# Altium footprint library sanziqi_v1.2.PcbLib: 32 footprints (part 2 of 2)
Each footprint in its own frame and in the unit in brackets; x right, y up, seen from the top. Pads: shape width x height; smd on the part's side, far side on the other; paste and mask are expansions set on the pad; w line width, h text height; cw(c..) or ccw(c..) is an arc to the next point about the centre after c.
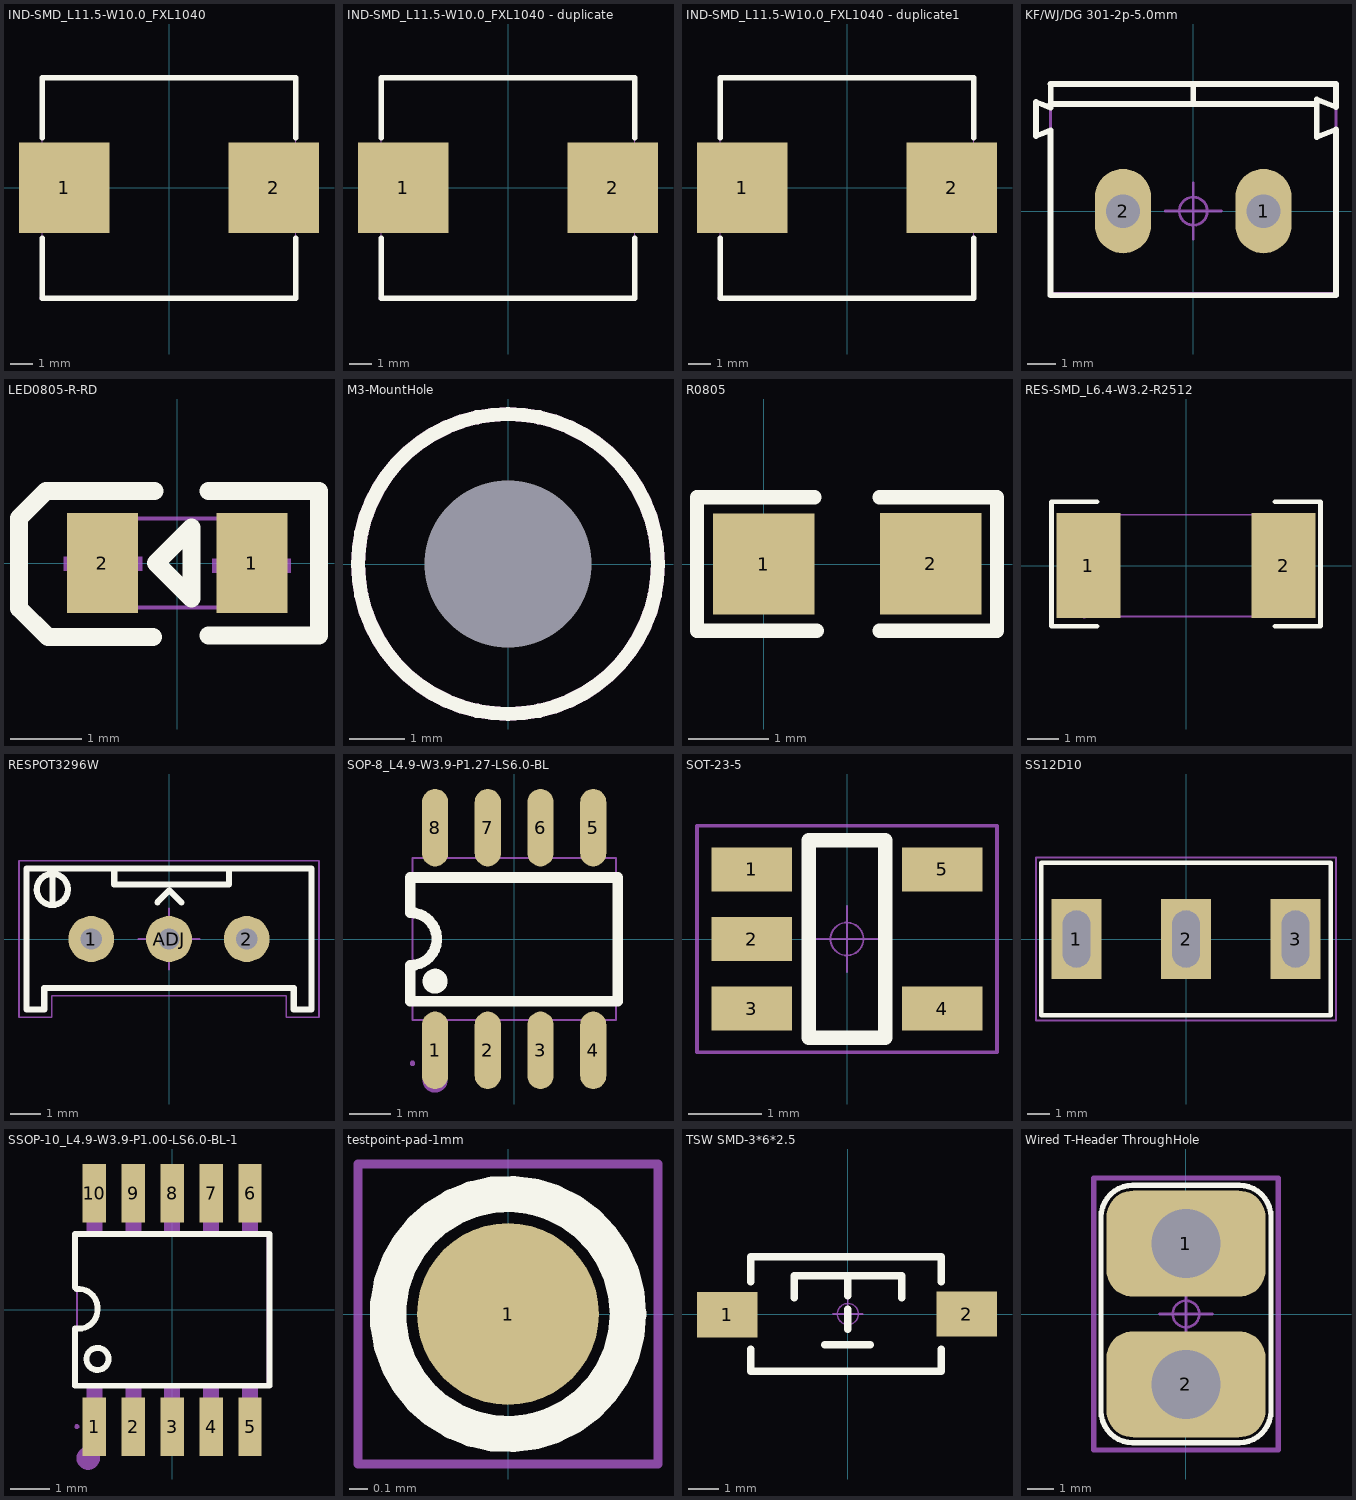
[diagram p1: the footprints below, top view; thin cyan lines are the x and y axes]

## IND-SMD_L11.5-W10.0_FXL1040 [mm]
pads (2):
  rect 4.1x4.1 smd: 1(-4.75,0) 2(4.75,0)
Top Overlay:
  lines w0.254: -5.75,-2.281 -5.75,-5 5.75,-5 5.75,-2.281 ; -5.75,2.281 -5.75,5 5.75,5 5.75,2.281
Mechanical 15:
  region: -5.65,-5 -5.65,-4.959 -5.709,-4.9 -5.791,-4.9 -5.85,-4.959 -5.85,-5 -5.85,-5.041 -5.792,-5.1 -5.709,-5.1 -5.65,-5.041 -5.65,-5
  region: -5.75,-1.5 -5.75,1.5 -3.75,1.5 -3.75,-1.5
  region: 3.75,-1.5 3.75,1.5 5.75,1.5 5.75,-1.5
  lines w0.051: -5.75,-5 5.75,-5 5.75,5 -5.75,5 -5.75,-5

## IND-SMD_L11.5-W10.0_FXL1040 - duplicate [mm]
pads (2):
  rect 4.1x4.1 smd: 1(-4.75,0) 2(4.75,0)
Top Overlay:
  lines w0.254: -5.75,-2.281 -5.75,-5 5.75,-5 5.75,-2.281 ; -5.75,2.281 -5.75,5 5.75,5 5.75,2.281
Mechanical 15:
  region: 3.75,-1.5 3.75,1.5 5.75,1.5 5.75,-1.5
  region: -5.75,-1.5 -5.75,1.5 -3.75,1.5 -3.75,-1.5
  region: -5.65,-5 -5.65,-4.959 -5.709,-4.9 -5.791,-4.9 -5.85,-4.959 -5.85,-5 -5.85,-5.041 -5.792,-5.1 -5.709,-5.1 -5.65,-5.041 -5.65,-5
  lines w0.051: -5.75,-5 -5.75,5 5.75,5 5.75,-5 -5.75,-5

## IND-SMD_L11.5-W10.0_FXL1040 - duplicate1 [mm]
pads (2):
  rect 4.1x4.1 smd: 1(-4.75,0) 2(4.75,0)
Top Overlay:
  lines w0.254: -5.75,-2.281 -5.75,-5 5.75,-5 5.75,-2.281 ; -5.75,2.281 -5.75,5 5.75,5 5.75,2.281
Mechanical 15:
  region: -5.65,-5 -5.65,-4.959 -5.709,-4.9 -5.791,-4.9 -5.85,-4.959 -5.85,-5 -5.85,-5.041 -5.792,-5.1 -5.709,-5.1 -5.65,-5.041 -5.65,-5
  region: -5.75,-1.5 -5.75,1.5 -3.75,1.5 -3.75,-1.5
  region: 3.75,-1.5 3.75,1.5 5.75,1.5 5.75,-1.5
  lines w0.051: -5.75,-5 5.75,-5 5.75,5 -5.75,5 -5.75,-5

## KF/WJ/DG 301-2p-5.0mm [mm]
height 2
pads (2):
  oval 2x3 hole 1.2: 1(2.5,0) 2(-2.5,0)
Top Overlay:
  lines w0.2: -5.08,2.879 -5.6,2.676 -5.6,3.886 -5.08,3.683 -5.08,4.525 ; 5.08,-2.997 5.08,2.904 4.394,2.636 4.394,3.976 5.08,3.708 5.08,4.525
  lines w0.203: -5.08,2.879 -5.08,-2.997 5.08,-2.997 ; -5.08,3.81 4.365,3.81 ; -5.08,4.525 5.08,4.525 ; 0,3.81 0,4.445
Top Component Center:
  circle w0.1: c0,0 r0.5
  lines w0.1: -1,0 1,0 ; 0,-1 0,1
Top Component Outline:
  lines w0.1: -5.08,-2.921 -5.08,4.572 5.08,4.572 5.08,-2.921 -5.08,-2.921
Top Designator:
  text ".Designator" at -2.511,0.538 h1
3D body "Terminal-Screw-3A-2way.step": height 10, standoff -3, extent -5.6,-3 5,4.6

## LED0805-R-RD [mm]
pads (2):
  rect 1x1.4 smd: 1(1.05,0) 2(-1.05,0)
Top Overlay:
  lines w0.254: -0.344,-1.043 -1.817,-1.043 -2.224,-0.636 -2.224,0.634 -1.843,1.015 -0.319,1.015 ; 0.443,-1.017 1.993,-1.017 1.993,1.015 0.443,1.015 ; -0.3,0 -0.2,0.1 0.2,0.5 0.2,-0.5 -0.2,-0.1 -0.3,0
Mechanical 6:
  region: 0.941,-0.556 0.941,0.544 1.141,0.544 1.141,-0.556
  region: 0.494,0.06 1.594,0.06 1.594,-0.14 0.494,-0.14
  region: -0.494,-0.109 -1.594,-0.109 -1.594,0.091 -0.494,0.091
Mechanical 15:
  region: 1.06,0.625 1.059,0.65 1.024,0.684 0.976,0.684 0.941,0.65 0.94,0.625 0.941,0.601 0.976,0.566 1.024,0.566 1.059,0.601 1.06,0.625
  region: 1,-0.625 0.6,-0.625 0.6,0.625 1,0.625
  region: -0.6,-0.625 -1,-0.625 -1,0.625 -0.6,0.625
  lines w0.051: -1,-0.625 -1,0.625 1,0.625 1,-0.625 -1,-0.625

## M3-MountHole [mm]
height 2
pads (1):
  rect 0x0 hole 3 unplated: 1(0,0)
Top Overlay:
  circle w0.254: c0,0 r2.7
Bottom Overlay:
  circle w0.254: c0,0 r2.7
Keep-Out Layer:
  circle w0.254: c0,0 r2.7

## R0805 [mm]
pads (2):
  rect 1.27x1.27 smd: 1(0,0) 2(2.09,0.005)
Top Overlay:
  lines w0.18: -0.838,0.813 -0.838,-0.838 0.66,-0.838 ; -0.838,0.838 0.635,0.838 ; 1.448,-0.838 2.921,-0.838 2.921,0.838 1.448,0.838
3D body "R0805.STEP": height 0.55, standoff 0, extent 0.036,-0.62 2.036,0.64

## RES-SMD_L6.4-W3.2-R2512 [mm]
pads (2):
  rect 2x3.3 smd: 1(-3.066,0) 2(3.066,0)
Top Overlay:
  lines w0.152: -2.794,-1.905 -4.229,-1.905 -4.229,2.008 -2.794,2.008 ; 2.794,-1.905 4.229,-1.905 4.229,2.008 2.794,2.008
Mechanical 15:
  region: 2.299,1.6 3.199,1.6 3.199,-1.6 2.299,-1.6
  region: -3.199,1.6 -2.299,1.6 -2.299,-1.6 -3.199,-1.6
  region: -3.14,-1.6 -3.14,-1.575 -3.175,-1.54 -3.225,-1.54 -3.26,-1.575 -3.26,-1.6 -3.26,-1.625 -3.225,-1.66 -3.175,-1.66 -3.14,-1.625 -3.14,-1.6
  lines w0.051: -3.2,-1.6 3.2,-1.6 3.2,1.6 -3.2,1.6 -3.2,-1.6

## RESPOT3296W [mm]
height 2
pads (3):
  round 1.5 hole 0.7: 1(-2.54,0) 2(2.54,0) ADJ(0,0)
Top Overlay:
  lines w0.2: -3.8,1.125 -3.8,2.125 ; -3.302,1.651 ccw(c-3.81,1.618) -3.301,1.608 ; -1.79,2.286 -1.79,1.778 1.96,1.778 1.96,2.286 ; -0.381,1.194 0.013,1.587 0.406,1.194 ; -4.65,-2.3 -4.65,2.3 4.65,2.3 4.65,-2.3 4.075,-2.3 4.075,-1.602 -4.075,-1.602 -4.075,-2.3 -4.65,-2.3
Top Component Center:
  circle w0.05: c0,0 r0.5
  lines w0.05: -1,0 1,0 ; 0,-1 0,1
Top Component Outline:
  lines w0.05: -4.9,-2.55 -4.9,2.55 4.9,2.55 4.9,-2.55 3.825,-2.55 3.825,-1.85 2.8,-1.85 -3.16,-1.85 -3.825,-1.85 -3.825,-2.55 -4.9,-2.55
Top Designator:
  text ".Designator" at -2.342,-0.326 h1
3D body "3296.STEP": height 3.1, standoff -11.9, extent -4.75,-2.4 4.75,2.4

## SOP-8_L4.9-W3.9-P1.27-LS6.0-BL [mm]
pads (8):
  oval 0.63x1.865 smd: 1(-1.905,-2.682) 2(-0.635,-2.682) 3(0.635,-2.682) 4(1.905,-2.682) 5(1.905,2.682) 6(0.635,2.682) 7(-0.635,2.682) 8(-1.905,2.682)
Top Overlay:
  circle w0.3: c-1.905,-1.016 r0.15
  lines w0.254: -2.5,-1.498 2.5,-1.498 2.5,1.482 -2.5,1.482 -2.499,0.635 cw(c-2.5,0) -2.5,-0.635 -2.5,-1.498
Mechanical 6:
  circle w0.3: c-1.905,-3.4 r0.15
Mechanical 15:
  region: 2.115,-2.232 1.695,-2.232 1.695,-1.942 2.115,-1.942
  region: 0.845,-2.232 0.425,-2.232 0.425,-1.942 0.845,-1.942
  region: -0.425,-2.232 -0.845,-2.232 -0.845,-1.942 -0.425,-1.942
  region: -1.695,-2.232 -2.115,-2.232 -2.115,-1.942 -1.695,-1.942
  region: -2.115,2.232 -1.695,2.232 -1.695,1.942 -2.115,1.942
  region: -0.845,2.232 -0.425,2.232 -0.425,1.942 -0.845,1.942
  region: 0.425,2.232 0.845,2.232 0.845,1.942 0.425,1.942
  region: 1.695,2.232 2.115,2.232 2.115,1.942 1.695,1.942
  region: -2.115,-3 -2.115,-2.165 -1.695,-2.165 -1.695,-3
  region: -0.845,-3 -0.845,-2.165 -0.425,-2.165 -0.425,-3
  region: 0.425,-3 0.425,-2.165 0.845,-2.165 0.845,-3
  region: 1.695,-3 1.695,-2.165 2.115,-2.165 2.115,-3
  region: -2.115,2.165 -2.115,3 -1.695,3 -1.695,2.165
  region: -0.845,2.165 -0.845,3 -0.425,3 -0.425,2.165
  region: 0.425,2.165 0.425,3 0.845,3 0.845,2.165
  region: 1.695,2.165 1.695,3 2.115,3 2.115,2.165
  region: -2.39,-3 -2.39,-2.975 -2.425,-2.94 -2.475,-2.94 -2.51,-2.975 -2.51,-3 -2.51,-3.025 -2.475,-3.06 -2.425,-3.06 -2.39,-3.025 -2.39,-3
  lines w0.051: -2.45,-1.95 2.45,-1.95 2.45,1.95 -2.45,1.95 -2.45,-1.95

## SOT-23-5 [mm]
height 2
pads (5):
  rect 1.1x0.6 smd: 1(-1.3,0.95) 2(-1.3,0) 3(-1.3,-0.95) 4(1.3,-0.95) 5(1.3,0.95)
Top Overlay:
  lines w0.2: -0.525,-1.35 -0.525,1.35 0.525,1.35 0.525,-1.35 -0.525,-1.35
Top Component Center:
  circle w0.025: c0,0 r0.225
  lines w0.025: -0.45,0 0.45,0 ; 0,-0.45 0,0.45
Top Component Outline:
  lines w0.05: -2.05,-1.55 -2.05,1.55 2.05,1.55 2.05,-1.55 -2.05,-1.55
Top Designator:
  text ".Designator" at -2.252,-0.226 h1
3D body "SOT-5.stp": height 1.08, standoff -0.01, extent -1.423,-1.461 1.422,1.46

## SS12D10 [mm]
height 2
pads (3):
  rect 2.2x3.5 hole 2.5 slot 1.2 at 0 deg mask+0.07: 1(-4.8,0) 2(0,0) 3(4.8,0)
Top Overlay:
  lines w0.2: -6.35,-3.35 6.35,-3.35 6.35,3.35 -6.35,3.35 -6.35,-3.3
Top Component Center:
  circle w0.1: c0,0 r0.5
  lines w0.1: -1,0 1,0 ; 0,-1 0,1
Top Component Outline:
  lines w0.1: -6.575,-3.575 -6.575,3.575 6.575,3.575 6.575,-3.575 -6.575,-3.575
Top Designator:
  text ".Designator" at -2.252,-0.138 h1
3D body "ms-13aap1.stp": height 12.5, standoff -5.4, extent -6.4,-3.3 6.35,3.8

## SSOP-10_L4.9-W3.9-P1.00-LS6.0-BL-1 [mm]
pads (10):
  rect 0.6x1.5 smd paste+0 mask+0.05: 1(-2,-3) 2(-1,-3) 3(0,-3) 4(1,-3) 5(2,-3) 6(2,3) 7(1,3) 8(0,3) 9(-1,3) 10(-2,3)
Top Overlay:
  circle w0.15: c-1.92,-1.26 r0.284
  lines w0.15: -2.5,-1.95 -2.5,-0.48 -2.4,-0.48 ccw(c-2.4,0) -1.92,0 ccw(c-2.416,0.044) -2.46,0.54 -2.5,0.58 -2.5,0.82 -2.5,1.95 2.5,1.95 2.5,-1.95 -2.5,-1.95
Mechanical 6:
  circle w0.3: c-2.159,-3.81 r0.15
Mechanical 15:
  region: -2.39,-3 -2.39,-2.975 -2.425,-2.94 -2.475,-2.94 -2.51,-2.975 -2.51,-3 -2.51,-3.025 -2.475,-3.06 -2.425,-3.06 -2.39,-3.025 -2.39,-3
  region: -2.2,2.38 -2.2,3 -1.8,3 -1.8,2.38
  region: -2.2,1.94 -2.2,2.39 -1.8,2.39 -1.8,1.94
  region: -1.2,2.38 -1.2,3 -0.8,3 -0.8,2.38
  region: -1.2,1.94 -1.2,2.39 -0.8,2.39 -0.8,1.94
  region: -0.2,2.38 -0.2,3 0.2,3 0.2,2.38
  region: -0.2,1.94 -0.2,2.39 0.2,2.39 0.2,1.94
  region: 0.8,2.38 0.8,3 1.2,3 1.2,2.38
  region: 0.8,1.94 0.8,2.39 1.2,2.39 1.2,1.94
  region: 1.8,2.38 1.8,3 2.2,3 2.2,2.38
  region: 1.8,1.94 1.8,2.39 2.2,2.39 2.2,1.94
  region: 1.8,-3 1.8,-2.38 2.2,-2.38 2.2,-3
  region: 1.8,-2.39 1.8,-1.94 2.2,-1.94 2.2,-2.39
  region: 0.8,-3 0.8,-2.38 1.2,-2.38 1.2,-3
  region: 0.8,-2.39 0.8,-1.94 1.2,-1.94 1.2,-2.39
  region: -0.2,-3 -0.2,-2.38 0.2,-2.38 0.2,-3
  region: -0.2,-2.39 -0.2,-1.94 0.2,-1.94 0.2,-2.39
  region: -1.2,-3 -1.2,-2.38 -0.8,-2.38 -0.8,-3
  region: -1.2,-2.39 -1.2,-1.94 -0.8,-1.94 -0.8,-2.39
  region: -2.2,-3 -2.2,-2.38 -1.8,-2.38 -1.8,-3
  region: -2.2,-2.39 -2.2,-1.94 -1.8,-1.94 -1.8,-2.39
  lines w0.051: -2.45,-1.95 -2.45,1.95 2.45,1.95 2.45,-1.95 -2.45,-1.95

## testpoint-pad-1mm [mm]
height 2
pads (1):
  round 1 smd: 1(0,0)
Top Overlay:
  circle w0.2: c0,0 r0.66
Top Component Outline:
  lines w0.05: -0.825,-0.825 0.825,-0.825 0.825,0.825 -0.825,0.825 -0.825,-0.825
Top Designator:
  text ".Designator" at -2.252,-0.226 h1

## TSW SMD-3*6*2.5 [mm] "3*6*2.5mm"
pads (2):
  rect 2x1.5 smd: 1(-3.996,-0.02) 2(3.937,0)
Top Overlay:
  lines w0.254: -3.212,-1.168 -3.212,-1.9 3.088,-1.9 3.088,-1.168 ; -3.212,1.067 -3.212,1.9 3.088,1.9 3.088,1.067 ; -1.778,0.533 -1.778,1.27 1.778,1.27 1.778,0.533 ; -0.762,-1.016 0.737,-1.016 ; 0,-0.508 0,0.152 ; 0,0.61 0,1.27
Mechanical 15:
  circle w0.05: c0,0 r0.35
  lines w0.05: -0.5,0 0.5,0 ; 0,-0.5 0,0.5
3D body "TSW SMD-3x6x2.5.STEP": height 2.59, standoff -0.03, extent -4,-1.877 4,1.623

## Wired T-Header ThroughHole [mm]
height 2
pads (2):
  rrect50% 6x4 hole 2.6: 1(0,2.65) 2(0,-2.65)
Top Overlay:
  lines w0.203: -3.2,-3.65 ccw(c-2,-3.65) -2,-4.85 2,-4.85 ccw(c2,-3.65) 3.2,-3.65 3.2,3.65 ccw(c2,3.65) 2,4.85 -2,4.85 ccw(c-2,3.65) -3.2,3.65 -3.2,-3.65
Top Component Center:
  circle w0.1: c0,0 r0.5
  lines w0.1: -1,0 1,0 ; 0,-1 0,1
Top Component Outline:
  lines w0.2: -3.475,-5.125 -3.475,5.125 3.475,5.125 3.475,-5.125 -3.475,-5.125
Top Designator:
  text ".Designator" at -2.252,-0.226 h1